# EAGLE library part 2-POSITION_SWITCH (library 2pos_switch)
2-Position DIP switch
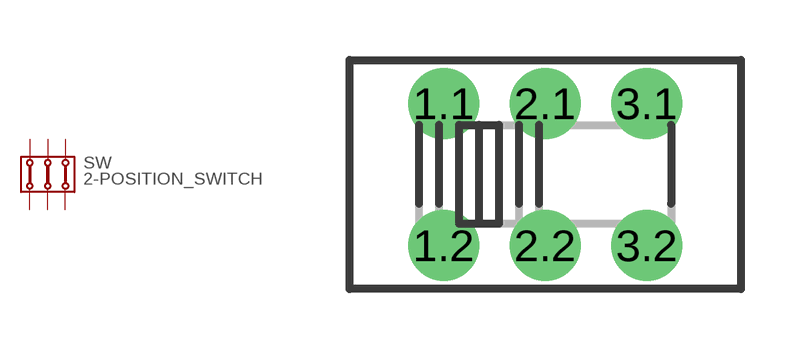
[diagram p0: symbol with the pads of 2PSW; footprint 2PSW]

Designator prefix SW

## 2-POSITION_SWITCH  [2PSW]
1.1  1.1  pas
1.2  1.2  pas
2.1  2.1  pas
2.2  2.2  pas
3.1  3.1  pas
3.2  3.2  pas

## Footprint 2PSW (pad centres in mm)
drill 1.016 pad 1.778: 1.1 -2.54,1.778; 1.2 -2.54,-1.778; 2.1 0,1.778; 2.2 0,-1.778; 3.1 2.54,1.778; 3.2 2.54,-1.778